# EAGLE library part 219-3LPSTR (library 219-3LPSTR)
Switch DIP ON OFF SPST 3 Flush Slide 0.1A 20VDC Gull Wing 2.54mm SMD T/R
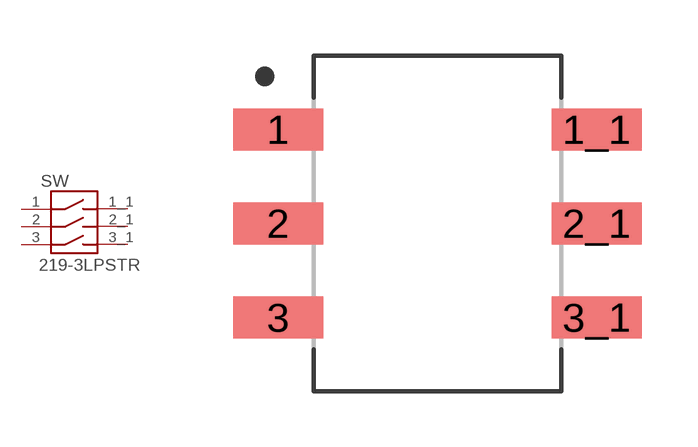
[diagram p0: symbol with the pads of SW_219-3LPSTR; footprint SW_219-3LPSTR]

Designator prefix SW

## 219-3LPSTR (MANUFACTURER: CTS; STANDARD: Manufacturer Recommendation)  [SW_219-3LPSTR]
1  1  pas
1_1  1_1  pas
2  2  pas
2_1  2_1  pas
3  3  pas
3_1  3_1  pas

## Footprint SW_219-3LPSTR (pad centres in mm)
smd 2.44 x 1.13: 1 -4.305,2.54; 1_1 4.305,2.54; 2 -4.305,0; 2_1 4.305,0; 3 -4.305,-2.54; 3_1 4.305,-2.54